# Altium footprint library C0402-STD.PcbLib: 1 footprints
Each footprint in its own frame and in the unit in brackets; x right, y up, seen from the top. Pads: shape width x height; smd on the part's side, far side on the other; paste and mask are expansions set on the pad; w line width, h text height; cw(c..) or ccw(c..) is an arc to the next point about the centre after c.
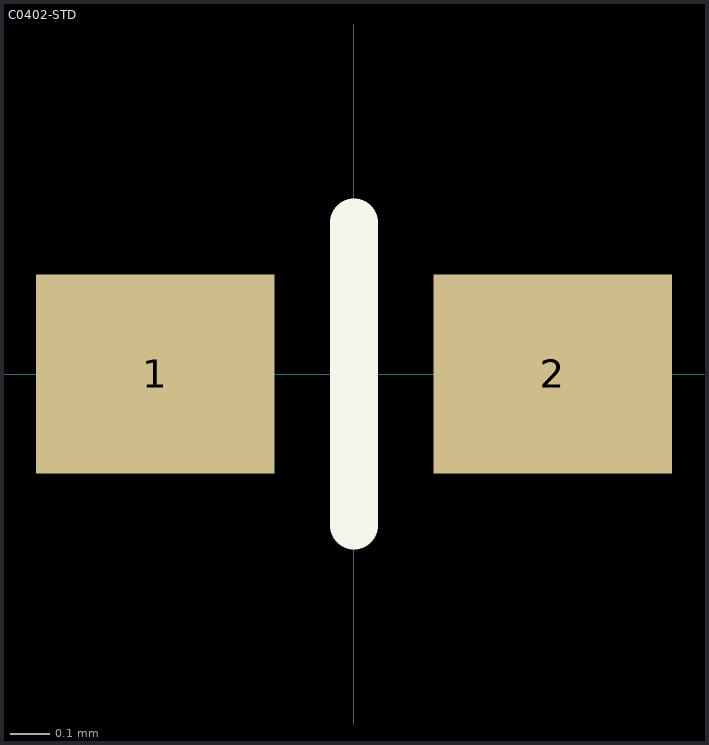
[diagram p0: the footprint, top view; thin cyan lines are the x and y axes]

## C0402-STD [mm] "Chip Capacitor, Body 1.0x0.5mm, IPC High Density"
height 0.254
pads (2):
  rect 0.6x0.5 smd: 1(-0.5,0) 2(0.5,0)
Top Overlay:
  lines w0.12: 0,-0.381 0,0.381
3D body: height 0.49, standoff -0.01, extent -0.5,-0.25 0.5,0.25